# EAGLE library part TXS0102 (library lib_stankus)
TI TXS0102 level shifter Farnell 1703315
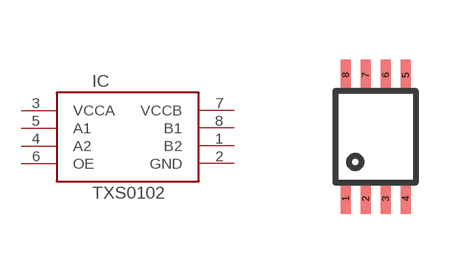
[diagram p83: symbol with the pads of VSSOP8; footprint VSSOP8]

Designator prefix IC

## TXS0102-VSSOP8  [VSSOP8]
1  B2  pas
2  GND  pas
3  VCCA  pas
4  A2  pas
5  A1  pas
6  OE  pas
7  VCCB  pas
8  B1  pas

## Footprint VSSOP8 (pad centres in mm)
VSSOP8
smd 0.25 x 0.75: 1 -0.75,-1.55; 2 -0.25,-1.55; 3 0.25,-1.55; 4 0.75,-1.55; 5 0.75,1.55; 6 0.25,1.55; 7 -0.25,1.55; 8 -0.75,1.55